# EAGLE library part EG2219 (library EG2219)
SLIDE, 500mA, 15VDC DPDT, On-On Through Hole, Right Angle Source: Datasheet <https://configured-product-images.s3.amazonaws.com/2D/specs/EG2219.pdf>
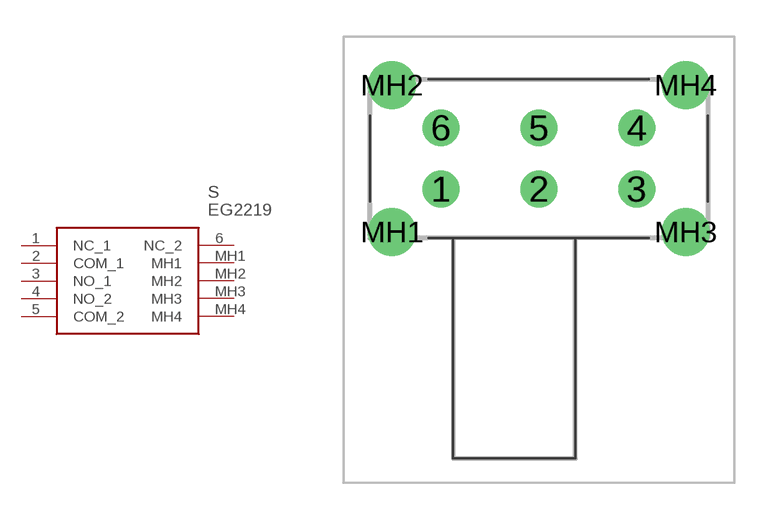
[diagram p0: symbol with the pads of EG2219; footprint EG2219]

Designator prefix S

## EG2219 (Description: SLIDE, 500mA, 15VDC DPDT, On-On Through Hole, Right Angle; Height: 8.5mm; Manufacturer_Name: E-Switch; Manufacturer_Part_Number: EG2219; Mouser_Part_Number: 612-EG2219; Mouser_Price-Stock: https://www.mouser.co.uk/ProductDetail/E-Switch/EG2219?qs=xDsBkp9Lkofjsq7Op0ToJg%3D%3D)  [EG2219]
1  NC_1
2  COM_1
3  NO_1
4  NO_2
5  COM_2
6  NC_2
MH1  MH1
MH2  MH2
MH3  MH3
MH4  MH4

## Footprint EG2219 (pad centres in mm)
EG2219-2
drill 1 pad 1.5: 1 0,0; 2 4,0; 3 8,0; 4 8,2.5; 5 4,2.5; 6 0,2.5
drill 1.3 pad 1.95: MH1 -2,-1.75; MH2 -2,4.25; MH3 10,-1.75; MH4 10,4.25